# EAGLE library part MPU-6050 (library pavlo)
edit this description Auto generated by make-symbol-device-package-bsdl.ulp Rev. 43 Source:
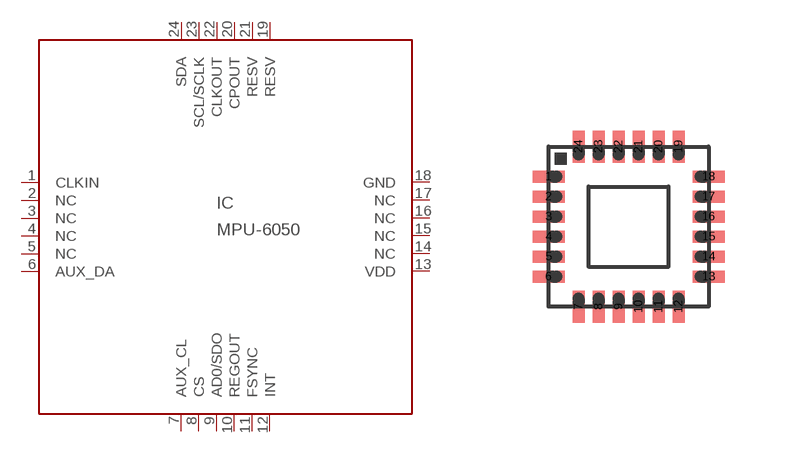
[diagram p3: symbol with the pads of S-PQFP-N24(RGE); footprint S-PQFP-N24(RGE)]

Designator prefix IC

## MPU-6050  [S-PQFP-N24(RGE)]
1  CLKIN  in
2  NC  nc
3  NC  nc
4  NC  nc
5  NC  nc
6  AUX_DA  in
7  AUX_CL  out
8  CS  in
9  AD0/SDO  out
10  REGOUT  pwr
11  FSYNC  out
12  INT  in
13  VDD  pwr
14  NC  nc
15  NC  nc
16  NC  nc
17  NC  nc
18  GND  pwr
19  RESV  nc
20  CPOUT  pwr
21  RESV  nc
22  CLKOUT  out
23  SCL/SCLK
24  SDA

## Footprint S-PQFP-N24(RGE) (pad centres in mm)
smd 0.8 x 0.3: 1 -2.5,1.75; 2 -2.5,1.25; 3 -2.5,0.75; 4 -2.5,0.25; 5 -2.5,-0.25; 6 -2.5,-0.75; 13 1.5,-0.75; 14 1.5,-0.25; 15 1.5,0.25; 16 1.5,0.75; 17 1.5,1.25; 18 1.5,1.75
smd 0.3 x 0.8: 7 -1.75,-1.5; 8 -1.25,-1.5; 9 -0.75,-1.5; 10 -0.25,-1.5; 11 0.25,-1.5; 12 0.75,-1.5; 19 0.75,2.5; 20 0.25,2.5; 21 -0.25,2.5; 22 -0.75,2.5; 23 -1.25,2.5; 24 -1.75,2.5